# EAGLE library part NOKIA_5510_GLCD (library LW_DUB)
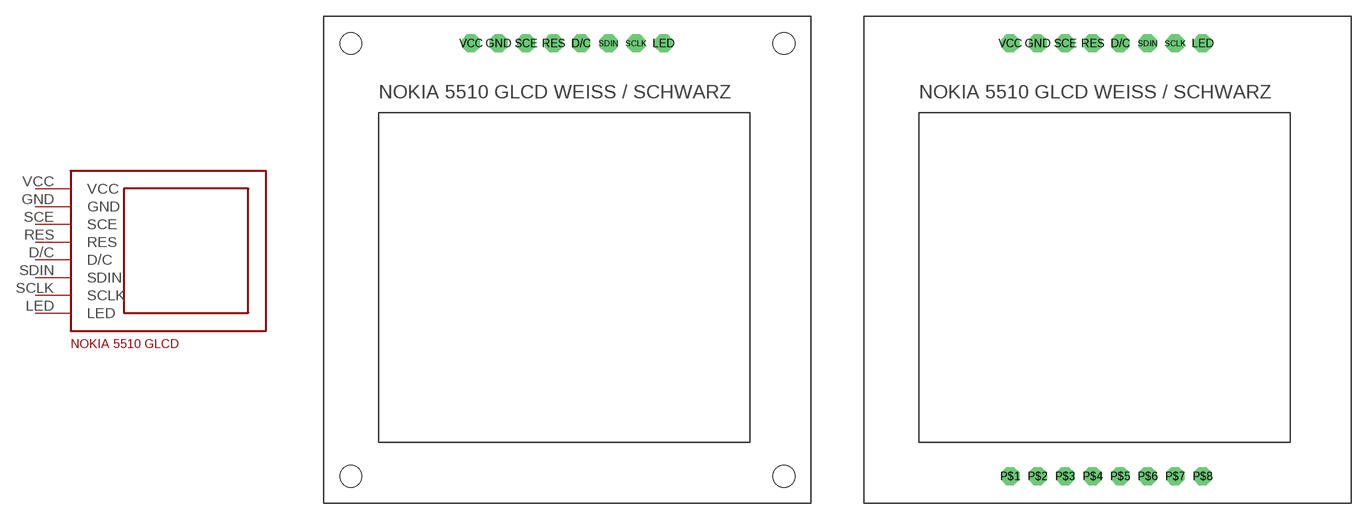
[diagram p18: symbol with the pads of NOKIA_5510_GLCD_WEISS_SCHWARZ_MIT_LOCH; footprints NOKIA_5510_GLCD_WEISS_SCHWARZ_MIT_LOCH, NOKIA_5510_GLCD_WEISS_SCHWARZ_OHNE_LOCH]

Designator prefix -

## NOKIA_5510_GLCDNOKIA_5510_GLCD_WEISS_SCHWARZ_MIT_LOCH  [NOKIA_5510_GLCD_WEISS_SCHWARZ_MIT_LOCH]
D/C  D/C
GND  GND
LED  LED
RES  RES
SCE  SCE
SCLK  SCLK
SDIN  SDIN
VCC  VCC

## NOKIA_5510_GLCDNOKIA_5510_GLCD_WEISS_SCHWARZ_OHNE_LOCH  [NOKIA_5510_GLCD_WEISS_SCHWARZ_OHNE_LOCH]
Pads as for NOKIA_5510_GLCD_WEISS_SCHWARZ_MIT_LOCH

## Footprint NOKIA_5510_GLCD_WEISS_SCHWARZ_MIT_LOCH (pad centres in mm)
drill 0.8 pad 1.676 octagon: D/C 2.561,20.309; GND -5.059,20.309; LED 10.181,20.309; RES 0.021,20.309; SCE -2.519,20.309; SCLK 7.641,20.309; SDIN 5.101,20.309; VCC -7.599,20.309
hole 2 at -18.709,20.309
hole 2 at 21.291,20.309
hole 2 at -18.709,-19.691
hole 2 at 21.291,-19.691

## Footprint NOKIA_5510_GLCD_WEISS_SCHWARZ_OHNE_LOCH (pad centres in mm)
drill 0.8 pad 1.676 octagon: D/C 2.537,20.335; GND -5.083,20.335; LED 10.157,20.335; P$1 -7.623,-19.665; P$2 -5.083,-19.665; P$3 -2.543,-19.665; P$4 -0.003,-19.665; P$5 2.537,-19.665; P$6 5.077,-19.665; P$7 7.617,-19.665; P$8 10.157,-19.665; RES -0.003,20.335; SCE -2.543,20.335; SCLK 7.617,20.335; SDIN 5.077,20.335; VCC -7.623,20.335